# Altium footprint library MoldsvorPassives.PcbLib: 4 footprints
Each footprint in its own frame and in the unit in brackets; x right, y up, seen from the top. Pads: shape width x height; smd on the part's side, far side on the other; paste and mask are expansions set on the pad; w line width, h text height; cw(c..) or ccw(c..) is an arc to the next point about the centre after c.
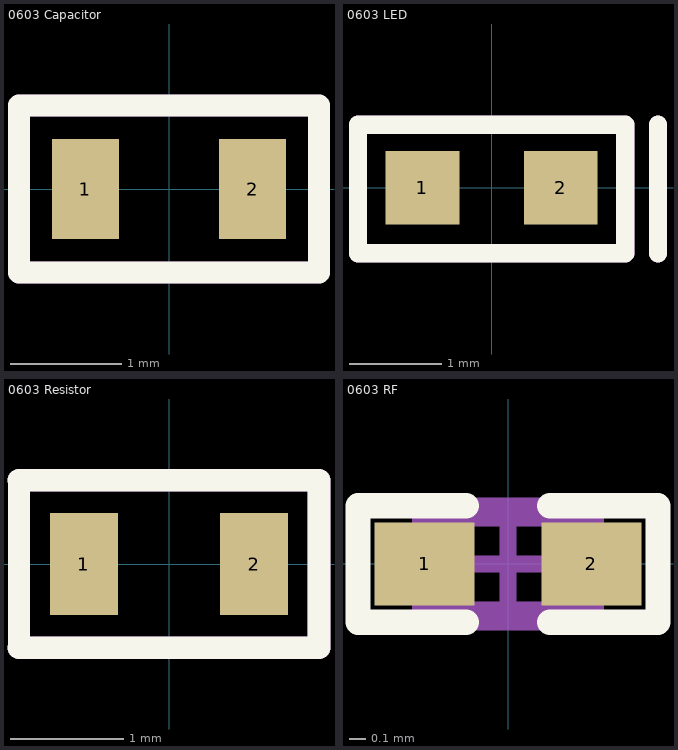
[diagram p0: the footprints below, top view; thin cyan lines are the x and y axes]

## 0603 Capacitor [mm]
pads (2):
  rect 0.6x0.9 smd: 1(-0.75,0) 2(0.75,0)
Top Overlay:
  lines w0.2: -1.346,-0.75 1.346,-0.75 1.346,0.75 -1.346,0.75 -1.346,-0.75
Mechanical 29:
  lines w0.2: -1.346,-0.75 1.346,-0.75 1.346,0.75 -1.346,0.75 -1.346,-0.75
  text "'.Designator'" at -1.068,-0.327 h0.7
3D body "0603B222K500CT--3DModel-STEP-56544.STEP": height 0.81, standoff 0.01, extent -0.8,-0.425 0.8,0.445

## 0603 LED [mm]
pads (2):
  rect 0.8x0.8 smd: 1(-0.75,0) 2(0.75,0)
Top Overlay:
  lines w0.198: 1.803,-0.711 1.803,0.686
  lines w0.2: -1.448,-0.711 -1.448,0.686 1.448,0.686 1.448,-0.711 -1.448,-0.711
Mechanical 29:
  lines w0.198: 1.803,-0.711 1.803,0.686
  lines w0.2: -1.448,-0.711 -1.448,0.686 1.448,0.686 1.448,-0.711 -1.448,-0.711
  text "'.Designator'" at -1.145,-0.378 h0.7
3D body "LTST-C191KGKT--3DModel-STEP-56544.STEP": height 0.56, standoff 0.01, extent -0.8,-0.4 0.8,0.4

## 0603 Resistor [mm]
pads (2):
  rect 0.6x0.9 smd: 1(-0.75,0) 2(0.75,0)
Top Overlay:
  lines w0.198: -1.321,-0.737 -1.321,0.737
  lines w0.2: -1.321,-0.737 1.321,-0.737 1.321,0.737 -1.321,0.737
Mechanical 29:
  lines w0.198: -1.321,-0.737 -1.321,0.737
  lines w0.2: -1.321,-0.737 1.321,-0.737 1.321,0.737 -1.321,0.737
  text "'.Designator'" at -0.9,-0.417 h0.7
3D body "CRGP0603F3K9.STEP": height 0.56, standoff 0.01, extent -0.8,-0.4 0.8,0.4

## 0603 RF [mm]
pads (2):
  rect 0.6x0.5 smd: 1(-0.5,0) 2(0.5,0)
Top Overlay:
  lines w0.152: -0.25,-0.35 -0.9,-0.35 -0.9,0.35 -0.25,0.35 ; 0.25,-0.35 0.9,-0.35 0.9,0.35 0.25,0.35
Mechanical 7:
  lines w0.1: -0.525,-0.275 -0.525,0.275 0.525,0.275 0.525,-0.275 -0.525,-0.275
  text ".Designator" at -0.432,-0.152 h0.3
Mechanical 15:
  lines w0.1: -0.275,0 0.275,0 ; 0,-0.275 0,0.275 ; -0.9,-0.35 0.9,-0.35 0.9,0.35 -0.9,0.35 -0.9,-0.35
3D body "User Library-0402(1005M) Cap.step": height 0.5, standoff -0.01, extent -0.508,-0.254 0.508,0.254